# Altium footprint library TI_National_Semiconductor_LP38511TJ_ADJ_NOPB_2.PcbLib: 1 footprints
Each footprint in its own frame and in the unit in brackets; x right, y up, seen from the top. Pads: shape width x height; smd on the part's side, far side on the other; paste and mask are expansions set on the pad; w line width, h text height; cw(c..) or ccw(c..) is an arc to the next point about the centre after c.
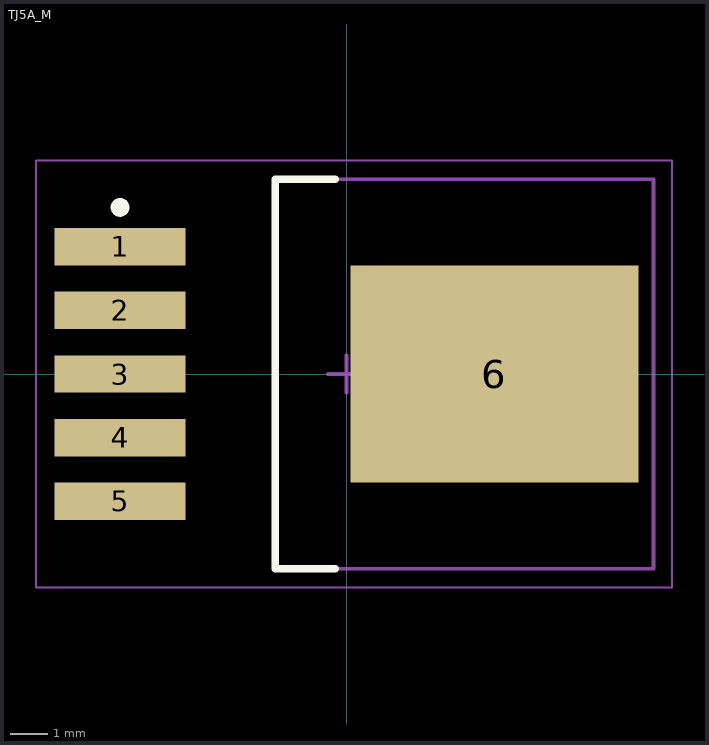
[diagram p0: the footprint, top view; thin cyan lines are the x and y axes]

## TJ5A_M [mm] "D2-PAK, 6-Leads, Body 9.9x10.2mm, Pitch 1.7mm, Lead Span 14mm, IPC Low Density"
height 2.1
pads (6):
  rect 3.5x1 smd: 1(-6.05,3.4) 2(-6.05,1.7) 3(-6.05,0) 4(-6.05,-1.7) 5(-6.05,-3.4)
  rect 7.7x5.8 smd: 6(3.95,0)
Top Overlay:
  circle w0.25: c-6.05,4.45 r0.125
  lines w0.2: -0.3,-5.2 -1.9,-5.2 -1.9,5.2 -0.3,5.2
Mechanical 13:
  lines w0.1: -1.9,-5.2 -1.9,5.2 8.2,5.2 8.2,-5.2 -1.9,-5.2
Mechanical 15:
  lines w0.05: -8.3,-5.7 -8.3,5.7 8.7,5.7 8.7,-5.7 -8.3,-5.7
  lines w0.1: -0.5,0 0.5,0 ; 0,-0.5 0,0.5
3D body: height 2.1, standoff 0, extent -1.9,-5.2 8.2,5.2